# Altium schematic symbol library vn9e30ftr.SchLib: 1 symbol
Pins are listed as number, name and electrical type; pins without a type are passive.

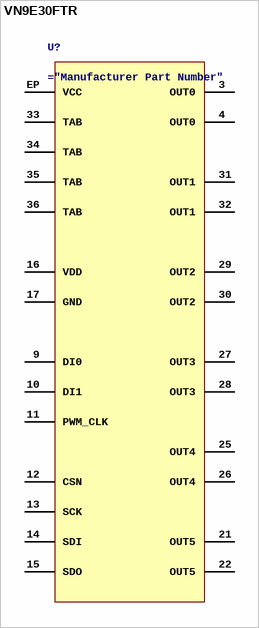
[diagram p0: symbol VN9E30FTR]

## VN9E30FTR
designator U?
Power Switch/Driver 1:6 N-Channel 35A 32-QFN (6x6)
pins: 3 OUT0, 4 OUT0, 9 DI0, 10 DI1, 11 PWM_CLK, 12 CSN, 13 SCK, 14 SDI, 15 SDO, 16 VDD, 17 GND, 21 OUT5, 22 OUT5, 25 OUT4, 26 OUT4, 27 OUT3, 28 OUT3, 29 OUT2, 30 OUT2, 31 OUT1, 32 OUT1, 33 TAB, 34 TAB, 35 TAB, 36 TAB, EP VCC